# Altium schematic symbol library mylib.SchLib: 2 symbols
Pins are listed as number, name and electrical type; pins without a type are passive.

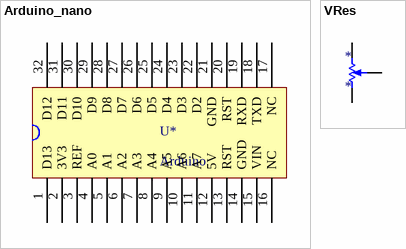
[diagram p0: symbols Arduino_nano to VRes]

## Arduino_nano
designator U*, comment Arduino
pins: 1 D13, 2 3V3, 3 REF, 4 A0, 5 A1, 6 A2, 7 A3, 8 A4, 9 A5, 10 A6, 11 A7, 12 5V, 13 RST, 14 GND, 15 VIN, 16 NC, 17 NC, 18 TXD, 19 RXD, 20 RST, 21 GND, 22 D2, 23 D3, 24 D4, 25 D5, 26 D6, 27 D7, 28 D8, 29 D9, 30 D10, 31 D11, 32 D12

## VRes
designator *
pins: 1 -, 2 W, 3 -